# Altium schematic symbol library SCH - SWITCHES - TCA9548A.SCHLIB: 1 symbol
Pins are listed as number, name and electrical type; pins without a type are passive.

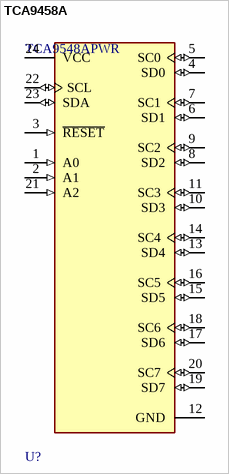
[diagram p0: symbol TCA9458A]

## TCA9458A
designator U?, comment TCA9548APWR
IC I2C SW 8CH W/RESET 24TSSOP; ComponentLink2Description: Datasheet; ComponentLink2URL: http://www.ti.com/lit/ds/symlink/tca9548a.pdf
footprint FP-PW0024A-IPC_A
footprint FP-PW0024A-MFG
footprint FP-PW0024A-IPC_B
footprint FP-PW0024A-IPC_C
pins: 1 A0 (in), 2 A1 (in), 3 ~{RESET} (in), 4 SD0 (io), 5 SC0 (io), 6 SD1 (io), 7 SC1 (io), 8 SD2 (io), 9 SC2 (io), 10 SD3 (io), 11 SC3 (io), 12 GND (power), 13 SD4 (io), 14 SC4 (io), 15 SD5 (io), 16 SC5 (io), 17 SD6 (io), 18 SC6 (io), 19 SD7 (io), 20 SC7 (io), 21 A2 (in), 22 SCL (io), 23 SDA (io), 24 VCC (power)